# EAGLE library part VREGADJ4 (library ads4)
Adjustable linear regulator with 4 output pins
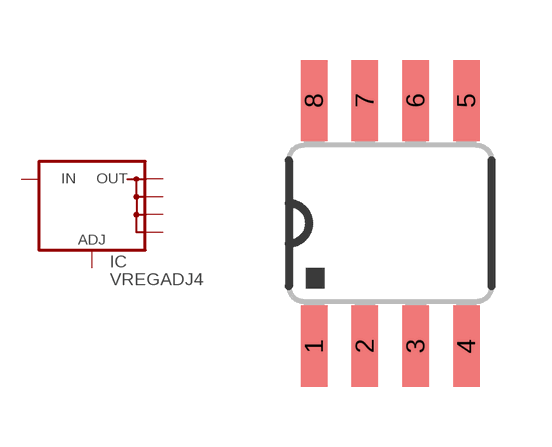
[diagram p63: symbol with the pads of SO08; footprint SO08]

Designator prefix IC

## VREGADJ4SO8  [SO08]
1  IN  in
2  OUT  pas
3  OUT1  pas
4  ADJ  in
6  OUT2  pas
7  OUT3  pas

## Footprint SO08 (pad centres in mm)
SO08 Package from 74xx-us.lbr 0.15" body
smd 0.66 x 2.032: 1 -1.905,-3.073; 2 -0.635,-3.073; 3 0.635,-3.073; 4 1.905,-3.073; 5 1.905,3.073; 6 0.635,3.073; 7 -0.635,3.073; 8 -1.905,3.073